# Altium schematic symbol library Schlib.SchLib: 20 symbols
Pins are listed as number, name and electrical type; pins without a type are passive.

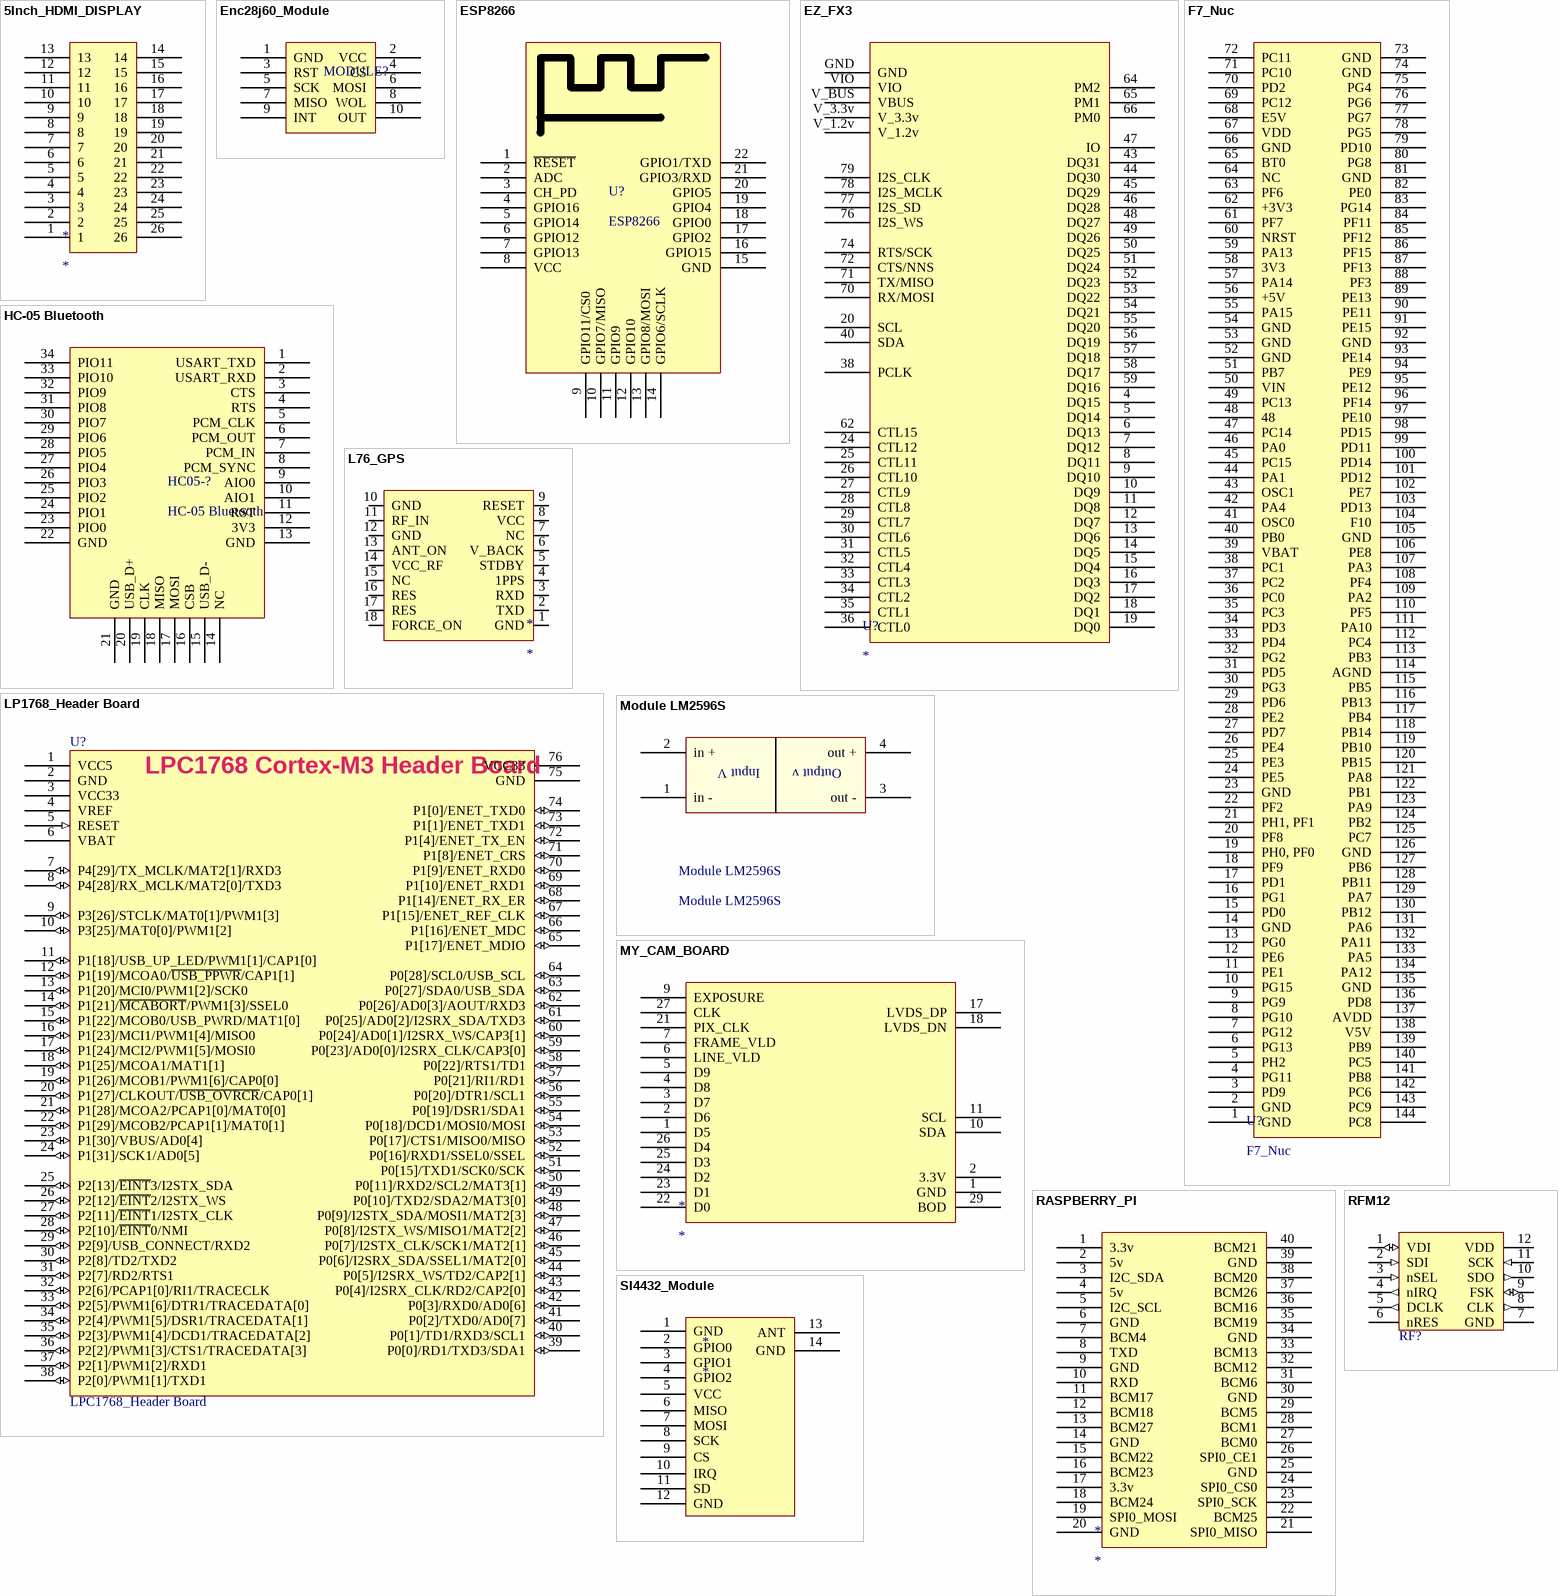
[diagram p0: symbols 5Inch_HDMI_DISPLAY to SI4432_Module]

## 5Inch_HDMI_DISPLAY
designator *
footprint 5Inch_HDMI_DISPLAY
pins: 1, 2, 3, 4, 5, 6, 7, 8, 9, 10, 11, 12, 13, 14, 15, 16, 17, 18, 19, 20, 21, 22, 23, 24, 25, 26

## Enc28j60_Module
designator MODULE?  (value not drawn)
footprint _ENC28J60_MODULE_1
footprint _ENC28J60_MODULE_2
pins: 1 GND, 2 VCC, 3 RST, 4 CS, 5 SCK, 6 MOSI, 7 MISO, 8 WOL, 9 INT, 10 OUT

## ESP8266
designator U?
footprint ESP8266
pins: 1 ~{RESET}, 2 ADC, 3 CH_PD, 4 GPIO16, 5 GPIO14, 6 GPIO12, 7 GPIO13, 8 VCC, 9 GPIO11/CS0, 10 GPIO7/MISO, 11 GPIO9, 12 GPIO10, 13 GPIO8/MOSI, 14 GPIO6/SCLK, 15 GND, 16 GPIO15, 17 GPIO2, 18 GPIO0, 19 GPIO4, 20 GPIO5, 21 GPIO3/RXD, 22 GPIO1/TXD

## EZ_FX3
designator U?
footprint EZ_FX3
pins: 4 DQ15, 5 DQ14, 6 DQ13, 7 DQ12, 8 DQ11, 9 DQ10, 10 DQ9, 11 DQ8, 12 DQ7, 13 DQ6, 14 DQ5, 15 DQ4, 16 DQ3, 17 DQ2, 18 DQ1, 19 DQ0, 20 SCL, 24 CTL12, 25 CTL11, 26 CTL10, 27 CTL9, 28 CTL8, 29 CTL7, 30 CTL6, 31 CTL5, 32 CTL4, 33 CTL3, 34 CTL2, 35 CTL1, 36 CTL0, 38 PCLK, 40 SDA, 43 DQ31, 44 DQ30, 45 DQ29, 46 DQ28, 47 IO, 48 DQ27, 49 DQ26, 50 DQ25, 51 DQ24, 52 DQ23, 53 DQ22, 54 DQ21, 55 DQ20, 56 DQ19, 57 DQ18, 58 DQ17, 59 DQ16, 62 CTL15, 64 PM2, 65 PM1, 66 PM0, 70 RX/MOSI, 71 TX/MISO, 72 CTS/NNS, 74 RTS/SCK, 76 I2S_WS, 77 I2S_SD, 78 I2S_MCLK, 79 I2S_CLK, GND, V_1.2v, V_3.3v, V_BUS VBUS, VIO

## F7_Nuc
designator U?
footprint F7_Nuc
pins: 1 GND, 2 GND, 3 PD9, 4 PG11, 5 PH2, 6 PG13, 7 PG12, 8 PG10, 9 PG9, 10 PG15, 11 PE1, 12 PE6, 13 PG0, 14 GND, 15 PD0, 16 PG1, 17 PD1, 18 PF9, 19 PH0, PF0, 20 PF8, 21 PH1, PF1, 22 PF2, 23 GND, 24 PE5, 25 PE3, 26 PE4, 27 PD7, 28 PE2, 29 PD6, 30 PG3, 31 PD5, 32 PG2, 33 PD4, 34 PD3, 35 PC3, 36 PC0, 37 PC2, 38 PC1, 39 VBAT, 40 PB0, 41 OSC0, 42 PA4, 43 OSC1, 44 PA1, 45 PC15, 46 PA0, 47 PC14, 48, 49 PC13, 50 VIN, 51 PB7, 52 GND, 53 GND, 54 GND, 55 PA15, 56 +5V, 57 PA14, 58 3V3, 59 PA13, 60 NRST, 61 PF7, 62 +3V3, 63 PF6, 64 NC, 65 BT0, 66 GND, 67 VDD, 68 E5V, 69 PC12, 70 PD2, 71 PC10, 72 PC11, 73 GND, 74 GND, 75 PG4, 76 PG6, 77 PG7, 78 PG5, 79 PD10, 80 PG8, 81 GND, 82 PE0, 83 PG14, 84 PF11, 85 PF12, 86 PF15, 87 PF13, 88 PF3, 89 PE13, 90 PE11, 91 PE15, 92 GND, 93 PE14, 94 PE9, 95 PE12, 96 PF14, 97 PE10, 98 PD15, 99 PD11, 100 PD14, 101 PD12, 102 PE7, 103 PD13, 104 F10, 105 GND, 106 PE8, 107 PA3, 108 PF4, 109 PA2, 110 PF5, 111 PA10, 112 PC4, 113 PB3, 114 AGND, 115 PB5, 116 PB13, 117 PB4, 118 PB14, 119 PB10, 120 PB15, 121 PA8, 122 PB1, 123 PA9, 124 PB2, 125 PC7, 126 GND, 127 PB6, 128 PB11, 129 PA7, 130 PB12, 131 PA6, 132 PA11, 133 PA5, 134 PA12, 135 GND, 136 PD8, 137 AVDD, 138 V5V, 139 PB9, 140 PC5, 141 PB8, 142 PC6, 143 PC9, 144 PC8

## HC-05 Bluetooth
designator HC05-?
footprint HC-05
pins: 1 USART_TXD, 2 USART_RXD, 3 CTS, 4 RTS, 5 PCM_CLK, 6 PCM_OUT, 7 PCM_IN, 8 PCM_SYNC, 9 AIO0, 10 AIO1, 11 RST, 12 3V3, 13 GND, 14 NC, 15 USB_D-, 16 CSB, 17 MOSI, 18 MISO, 19 CLK, 20 USB_D+, 21 GND, 22 GND, 23 PIO0, 24 PIO1, 25 PIO2, 26 PIO3, 27 PIO4, 28 PIO5, 29 PIO6, 30 PIO7, 31 PIO8, 32 PIO9, 33 PIO10, 34 PIO11

## L76_GPS
designator *
footprint L76_GPS
pins: 1 GND, 2 TXD, 3 RXD, 4 1PPS, 5 STDBY, 6 V_BACK, 7 NC, 8 VCC, 9 RESET, 10 GND, 11 RF_IN, 12 GND, 13 ANT_ON, 14 VCC_RF, 15 NC, 16 RES, 17 RES, 18 FORCE_ON

## LP1768_Header Board
designator U?, comment LPC1768_Header Board
LPC1768 Cortex-M3 Header Board from www.eca.com; created by:: Altium Designer (M.Hariri)
footprint LPC1768_Header Board (Footprint not found)
pins: 1 VCC5 (power), 2 GND (power), 3 VCC33 (power), 4 VREF (power), 5 RESET (in), 6 VBAT (power), 7 P4[29]/TX_MCLK/MAT2[1]/RXD3 (io), 8 P4[28]/RX_MCLK/MAT2[0]/TXD3 (io), 9 P3[26]/STCLK/MAT0[1]/PWM1[3] (io), 10 P3[25]/MAT0[0]/PWM1[2] (io), 11 P1[18]/USB_UP_LED/PWM1[1]/CAP1[0] (io), 12 P1[19]/MCOA0/~{USB_PPWR}/CAP1[1] (io), 13 P1[20]/MCI0/PWM1[2]/SCK0 (io), 14 P1[21]/~{MCABORT}/PWM1[3]/SSEL0 (io), 15 P1[22]/MCOB0/USB_PWRD/MAT1[0] (io), 16 P1[23]/MCI1/PWM1[4]/MISO0 (io), 17 P1[24]/MCI2/PWM1[5]/MOSI0 (io), 18 P1[25]/MCOA1/MAT1[1] (io), 19 P1[26]/MCOB1/PWM1[6]/CAP0[0] (io), 20 P1[27]/CLKOUT/~{USB_OVRCR}/CAP0[1] (io), 21 P1[28]/MCOA2/PCAP1[0]/MAT0[0] (io), 22 P1[29]/MCOB2/PCAP1[1]/MAT0[1] (io), 23 P1[30]/VBUS/AD0[4] (io), 24 P1[31]/SCK1/AD0[5] (io), 25 P2[13]/~{EINT}3/I2STX_SDA (io), 26 P2[12]/~{EINT}2/I2STX_WS (io), 27 P2[11]/~{EINT}1/I2STX_CLK (io), 28 P2[10]/~{EINT}0/NMI (io), 29 P2[9]/USB_CONNECT/RXD2 (io), 30 P2[8]/TD2/TXD2 (io), 31 P2[7]/RD2/RTS1 (io), 32 P2[6]/PCAP1[0]/RI1/TRACECLK (io), 33 P2[5]/PWM1[6]/DTR1/TRACEDATA[0] (io), 34 P2[4]/PWM1[5]/DSR1/TRACEDATA[1] (io), 35 P2[3]/PWM1[4]/DCD1/TRACEDATA[2] (io), 36 P2[2]/PWM1[3]/CTS1/TRACEDATA[3] (io), 37 P2[1]/PWM1[2]/RXD1 (io), 38 P2[0]/PWM1[1]/TXD1 (io), 39 P0[0]/RD1/TXD3/SDA1 (io), 40 P0[1]/TD1/RXD3/SCL1 (io), 41 P0[2]/TXD0/AD0[7] (io), 42 P0[3]/RXD0/AD0[6] (io), 43 P0[4]/I2SRX_CLK/RD2/CAP2[0] (io), 44 P0[5]/I2SRX_WS/TD2/CAP2[1] (io), 45 P0[6]/I2SRX_SDA/SSEL1/MAT2[0] (io), 46 P0[7]/I2STX_CLK/SCK1/MAT2[1] (io), 47 P0[8]/I2STX_WS/MISO1/MAT2[2] (io), 48 P0[9]/I2STX_SDA/MOSI1/MAT2[3] (io), 49 P0[10]/TXD2/SDA2/MAT3[0] (io), 50 P0[11]/RXD2/SCL2/MAT3[1] (io), 51 P0[15]/TXD1/SCK0/SCK (io), 52 P0[16]/RXD1/SSEL0/SSEL (io), 53 P0[17]/CTS1/MISO0/MISO (io), 54 P0[18]/DCD1/MOSI0/MOSI (io), 55 P0[19]/DSR1/SDA1 (io), 56 P0[20]/DTR1/SCL1 (io), 57 P0[21]/RI1/RD1 (io), 58 P0[22]/RTS1/TD1 (io), 59 P0[23]/AD0[0]/I2SRX_CLK/CAP3[0] (io), 60 P0[24]/AD0[1]/I2SRX_WS/CAP3[1] (io), 61 P0[25]/AD0[2]/I2SRX_SDA/TXD3 (io), 62 P0[26]/AD0[3]/AOUT/RXD3 (io), 63 P0[27]/SDA0/USB_SDA (io), 64 P0[28]/SCL0/USB_SCL (io), 65 P1[17]/ENET_MDIO (io), 66 P1[16]/ENET_MDC (io), 67 P1[15]/ENET_REF_CLK (io), 68 P1[14]/ENET_RX_ER (io), 69 P1[10]/ENET_RXD1 (io), 70 P1[9]/ENET_RXD0 (io), 71 P1[8]/ENET_CRS (io), 72 P1[4]/ENET_TX_EN (io), 73 P1[1]/ENET_TXD1 (io), 74 P1[0]/ENET_TXD0 (io), 75 GND (power), 76 VCC33 (power)
text: LPC1768 Cortex-M3 Header Board

## Module LM2596S
designator Module LM2596S
footprint Module LM2596S
pins: 1 in -, 2 in +, 3 out -, 4 out +
text: Input V; Output v

## MY_CAM_BOARD
designator *
footprint MY_CAM_MUD
pins: 1 D5, 1 GND, 2 D6, 2 3.3V, 3 D7, 4 D8, 5 D9, 6 LINE_VLD, 7 FRAME_VLD, 9 EXPOSURE, 10 SDA, 11 SCL, 17 LVDS_DP, 18 LVDS_DN, 21 PIX_CLK, 22 D0, 23 D1, 24 D2, 25 D3, 26 D4, 27 CLK, 29 BOD

## RASPBERRY_PI
designator *
footprint RASPBERRY_PI
pins: 1 3.3v, 2 5v, 3 I2C_SDA, 4 5v, 5 I2C_SCL, 6 GND, 7 BCM4, 8 TXD, 9 GND, 10 RXD, 11 BCM17, 12 BCM18, 13 BCM27, 14 GND, 15 BCM22, 16 BCM23, 17 3.3v, 18 BCM24, 19 SPI0_MOSI, 20 GND, 21 SPI0_MISO, 22 BCM25, 23 SPI0_SCK, 24 SPI0_CS0, 25 GND, 26 SPI0_CE1, 27 BCM0, 28 BCM1, 29 BCM5, 30 GND, 31 BCM6, 32 BCM12, 33 BCM13, 34 GND, 35 BCM19, 36 BCM16, 37 BCM26, 38 BCM20, 39 GND, 40 BCM21

## RFM12
designator RF?  (value not drawn)
Universal ISM Band FSK Transceiver Module
footprint My_RFM12 (RFM12 Transceiver)
pins: 1 VDI (io), 2 SDI (in), 3 nSEL (in), 4 nIRQ (out), 5 DCLK (out), 6 nRES, 7 GND (power), 8 CLK (out), 9 FSK (io), 10 SDO (out), 11 SCK (in), 12 VDD (power)

## SI4432_Module
designator *
footprint _SI4432_Module
pins: 1 GND, 2 GPIO0, 3 GPIO1, 4 GPIO2, 5 VCC, 6 MISO, 7 MOSI, 8 SCK, 9 CS, 10 IRQ, 11 SD, 12 GND, 13 ANT, 14 GND

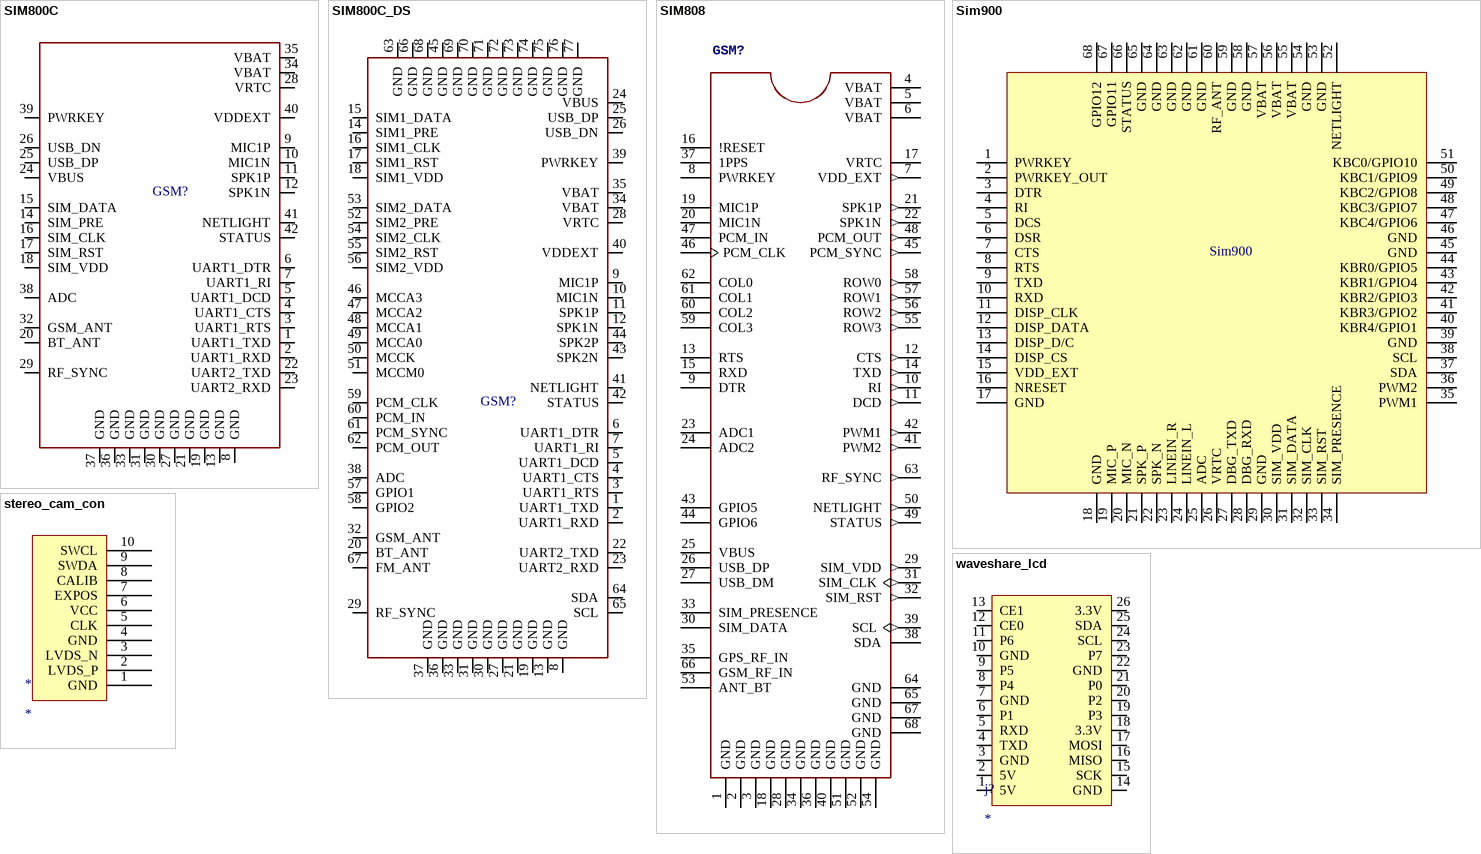
[diagram p1: symbols SIM800C to waveshare_lcd]

## SIM800C
designator GSM?  (value not drawn)
footprint _Sim800C
pins: 1 UART1_TXD, 2 UART1_RXD, 3 UART1_RTS, 4 UART1_CTS, 5 UART1_DCD, 6 UART1_DTR, 7 UART1_RI, 8 GND, 9 MIC1P, 10 MIC1N, 11 SPK1P, 12 SPK1N, 13 GND, 14 SIM_PRE, 15 SIM_DATA, 16 SIM_CLK, 17 SIM_RST, 18 SIM_VDD, 19 GND, 20 BT_ANT, 21 GND, 22 UART2_TXD, 23 UART2_RXD, 24 VBUS, 25 USB_DP, 26 USB_DN, 27 GND, 28 VRTC, 29 RF_SYNC, 30 GND, 31 GND, 32 GSM_ANT, 33 GND, 34 VBAT, 35 VBAT, 36 GND, 37 GND, 38 ADC, 39 PWRKEY, 40 VDDEXT, 41 NETLIGHT, 42 STATUS

## SIM800C_DS
designator GSM?, comment SIM800C-DS  (value not drawn)
footprint _Sim800C-DS (Footprint not found)
pins: 1 UART1_TXD, 2 UART1_RXD, 3 UART1_RTS, 4 UART1_CTS, 5 UART1_DCD, 6 UART1_DTR, 7 UART1_RI, 8 GND, 9 MIC1P, 10 MIC1N, 11 SPK1P, 12 SPK1N, 13 GND, 14 SIM1_PRE, 15 SIM1_DATA, 16 SIM1_CLK, 17 SIM1_RST, 18 SIM1_VDD, 19 GND, 20 BT_ANT, 21 GND, 22 UART2_TXD, 23 UART2_RXD, 24 VBUS, 25 USB_DP, 26 USB_DN, 27 GND, 28 VRTC, 29 RF_SYNC, 30 GND, 31 GND, 32 GSM_ANT, 33 GND, 34 VBAT, 35 VBAT, 36 GND, 37 GND, 38 ADC, 39 PWRKEY, 40 VDDEXT, 41 NETLIGHT, 42 STATUS, 43 SPK2N, 44 SPK2P, 45 GND, 46 MCCA3, 47 MCCA2, 48 MCCA1, 49 MCCA0, 50 MCCK, 51 MCCM0, 52 SIM2_PRE, 53 SIM2_DATA, 54 SIM2_CLK, 55 SIM2_RST, 56 SIM2_VDD, 57 GPIO1, 58 GPIO2, 59 PCM_CLK, 60 PCM_IN, 61 PCM_SYNC, 62 PCM_OUT, 63 GND, 64 SDA, 65 SCL, 66 GND, 67 FM_ANT, 68 GND, 69 GND, 70 GND, 71 GND, 72 GND, 73 GND, 74 GND, 75 GND, 76 GND, 77 GND

## SIM808
designator GSM?  (value not drawn)
footprint _SIM808
pins: 1 GND, 2 GND, 3 GND, 4 VBAT (power), 5 VBAT (power), 6 VBAT (power), 7 VDD_EXT (out), 8 PWRKEY, 9 DTR, 10 RI (out), 11 DCD (out), 12 CTS (out), 13 RTS, 14 TXD (out), 15 RXD, 16 !RESET, 17 VRTC (power), 18 GND, 19 MIC1P, 20 MIC1N, 21 SPK1P (out), 22 SPK1N (out), 23 ADC1, 24 ADC2, 25 VBUS, 26 USB_DP, 27 USB_DM, 28 GND, 29 SIM_VDD (out), 30 SIM_DATA, 31 SIM_CLK (out), 32 SIM_RST (out), 33 SIM_PRESENCE, 34 GND, 35 GPS_RF_IN, 36 GND, 37 1PPS, 38 SDA, 39 SCL (out), 40 GND, 41 PWM2 (out), 42 PWM1 (out), 43 GPIO5, 44 GPIO6, 45 PCM_SYNC (out), 46 PCM_CLK, 47 PCM_IN, 48 PCM_OUT (out), 49 STATUS (out), 50 NETLIGHT (out), 51 GND, 52 GND, 53 ANT_BT, 54 GND, 55 ROW3 (out), 56 ROW2 (out), 57 ROW1 (out), 58 ROW0 (out), 59 COL3, 60 COL2, 61 COL1, 62 COL0, 63 RF_SYNC (out), 64 GND, 65 GND, 66 GSM_RF_IN, 67 GND, 68 GND

## Sim900
designator Sim900  (value not drawn)
footprint _Sim900
pins: 1 PWRKEY, 2 PWRKEY_OUT, 3 DTR, 4 RI, 5 DCS, 6 DSR, 7 CTS, 8 RTS, 9 TXD, 10 RXD, 11 DISP_CLK, 12 DISP_DATA, 13 DISP_D/C, 14 DISP_CS, 15 VDD_EXT, 16 NRESET, 17 GND, 18 GND, 19 MIC_P, 20 MIC_N, 21 SPK_P, 22 SPK_N, 23 LINEIN_R, 24 LINEIN_L, 25 ADC, 26 VRTC, 27 DBG_TXD, 28 DBG_RXD, 29 GND, 30 SIM_VDD, 31 SIM_DATA, 32 SIM_CLK, 33 SIM_RST, 34 SIM_PRESENCE, 35 PWM1, 36 PWM2, 37 SDA, 38 SCL, 39 GND, 40 KBR4/GPIO1, 41 KBR3/GPIO2, 42 KBR2/GPIO3, 43 KBR1/GPIO4, 44 KBR0/GPIO5, 45 GND, 46 GND, 47 KBC4/GPIO6, 48 KBC3/GPIO7, 49 KBC2/GPIO8, 50 KBC1/GPIO9, 51 KBC0/GPIO10, 52 NETLIGHT, 53 GND, 54 GND, 55 VBAT, 56 VBAT, 57 VBAT, 58 GND, 59 GND, 60 RF_ANT, 61 GND, 62 GND, 63 GND, 64 GND, 65 GND, 66 STATUS, 67 GPIO11, 68 GPIO12

## stereo_cam_con
designator *
footprint streo_cam_conn
pins: 1 GND, 2 LVDS_P, 3 LVDS_N, 4 GND, 5 CLK, 6 VCC, 7 EXPOS, 8 CALIB, 9 SWDA, 10 SWCL

## waveshare_lcd
designator j?
footprint WAVESHARE_LCD
pins: 1 5V, 2 5V, 3 GND, 4 TXD, 5 RXD, 6 P1, 7 GND, 8 P4, 9 P5, 10 GND, 11 P6, 12 CE0, 13 CE1, 14 GND, 15 SCK, 16 MISO, 17 MOSI, 18 3.3V, 19 P3, 20 P2, 21 P0, 22 GND, 23 P7, 24 SCL, 25 SDA, 26 3.3V

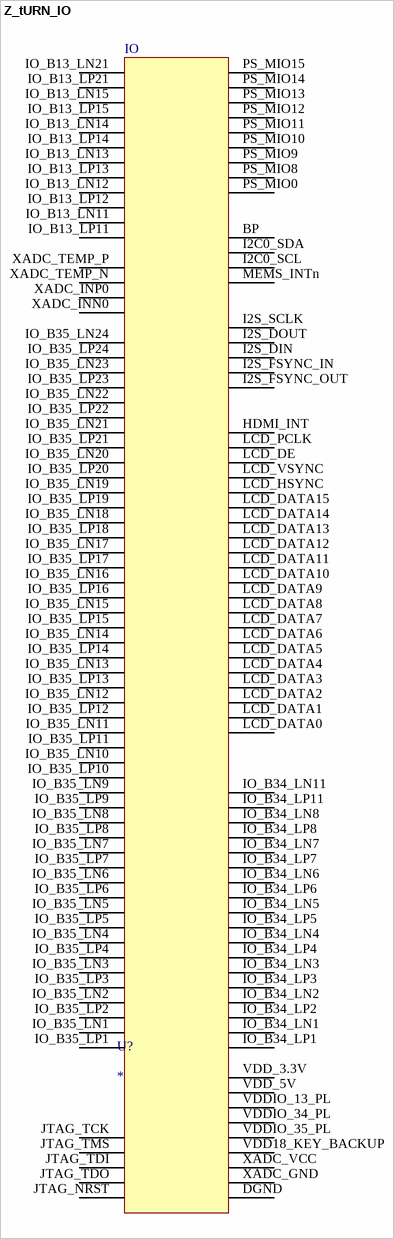
[diagram p2: symbol Z_tURN_IO]

## Z_tURN_IO
designator U?
footprint ZTURN
footprint Z_TURN_DOUBLE_SIDE
pins: BP, DGND, HDMI_INT, I2C0_SCL, I2C0_SDA, I2S_DIN, I2S_DOUT, I2S_FSYNC_IN, I2S_FSYNC_OUT, I2S_SCLK, IO_B13_LN11, IO_B13_LN12, IO_B13_LN13, IO_B13_LN14, IO_B13_LN15, IO_B13_LN21, IO_B13_LP11, IO_B13_LP12, IO_B13_LP13, IO_B13_LP14, IO_B13_LP15, IO_B13_LP21, IO_B34_LN1, IO_B34_LN2, IO_B34_LN3, IO_B34_LN4, IO_B34_LN5, IO_B34_LN6, IO_B34_LN7, IO_B34_LN8, IO_B34_LN11, IO_B34_LP1, IO_B34_LP2, IO_B34_LP3, IO_B34_LP4, IO_B34_LP5, IO_B34_LP6, IO_B34_LP7, IO_B34_LP8, IO_B34_LP11, IO_B35_LN1, IO_B35_LN2, IO_B35_LN3, IO_B35_LN4, IO_B35_LN5, IO_B35_LN6, IO_B35_LN7, IO_B35_LN8, IO_B35_LN9, IO_B35_LN10, IO_B35_LN11, IO_B35_LN12, IO_B35_LN13, IO_B35_LN14, IO_B35_LN15, IO_B35_LN16, IO_B35_LN17, IO_B35_LN18, IO_B35_LN19, IO_B35_LN20, IO_B35_LN21, IO_B35_LN22, IO_B35_LN23, IO_B35_LN24, IO_B35_LP1, IO_B35_LP2, IO_B35_LP3, IO_B35_LP4, IO_B35_LP5, IO_B35_LP6, IO_B35_LP7, IO_B35_LP8, IO_B35_LP9, IO_B35_LP10, IO_B35_LP11, IO_B35_LP12, IO_B35_LP13, IO_B35_LP14, IO_B35_LP15, IO_B35_LP16, IO_B35_LP17, IO_B35_LP18, IO_B35_LP19, IO_B35_LP20, IO_B35_LP21, IO_B35_LP22, IO_B35_LP23, IO_B35_LP24, JTAG_NRST, JTAG_TCK, JTAG_TDI, JTAG_TDO, JTAG_TMS, LCD_DATA0, LCD_DATA1, LCD_DATA2, LCD_DATA3, LCD_DATA4, LCD_DATA5, LCD_DATA6, LCD_DATA7, LCD_DATA8, LCD_DATA9, LCD_DATA10, LCD_DATA11, LCD_DATA12, LCD_DATA13, LCD_DATA14, LCD_DATA15, LCD_DE, LCD_HSYNC, LCD_PCLK, LCD_VSYNC, MEMS_INTn, PS_MIO0, PS_MIO8, PS_MIO9, PS_MIO10, PS_MIO11, PS_MIO12, PS_MIO13, PS_MIO14, PS_MIO15, VDD18_KEY_BACKUP, VDD_3.3V, VDD_5V, VDDIO_13_PL, VDDIO_34_PL, VDDIO_35_PL, XADC_GND, XADC_INN0, XADC_INP0, XADC_TEMP_N, XADC_TEMP_P, XADC_VCC
text: IO